# EAGLE library part TPS73801 (library texas)
LOW-DROPOUT REGULATOR 1.0-A LOW-NOISE FAST-TRANSIENT-RESPONSE
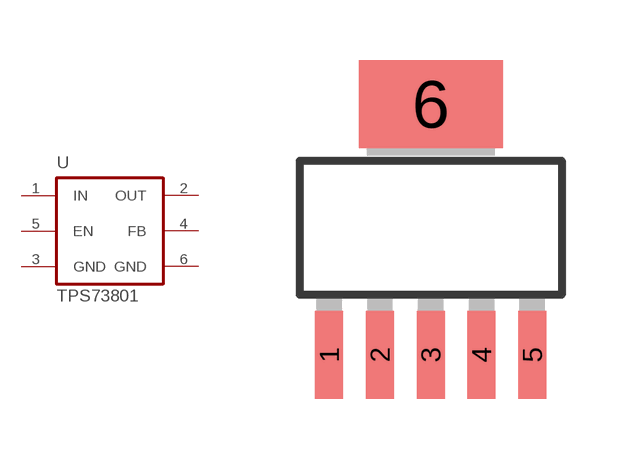
[diagram p76: symbol with the pads of SOT223-6; footprint SOT223-6]

Designator prefix U

## TPS73801  [SOT223-6]
1  IN  in
2  OUT  pas
3  GND  pwr
4  FB  pas
5  EN  in
6  GND  pas

## Footprint SOT223-6 (pad centres in mm)
SOT-223 5 lead
smd 0.7 x 2.2: 1 -2.54,-3.175; 2 -1.27,-3.175; 3 0,-3.175; 4 1.27,-3.175; 5 2.54,-3.175
smd 3.6 x 2.2: 6 0,3.1